# EAGLE library part BLE113 (library jetney-silabs-modules)
Bluetooth Low Energy single-mode module - Bluetooth 4.0 (CC2541). BLE113-A variant has an on-module ceramic chip antenna. BLE113-A variant includes keepout/restrict area. Antenna edge of the module should be flush up against the edge of the PCB. See datasheet for variant layout details. The BLE113 is a Bluetooth Smart module targeted for small and low-power sensors and accessories. It integrates all features required for a Bluetooth Smart application, including Bluetooth radio, software stack, and GATT-based profiles. The BLE113 Bluetooth Smart module can also host end-user applications, which means no external micro controller is required in size or price constrained devices. Moreover, it has flexible hardware interfaces to connect to different peripherals and sensors and can be powered directly from a standard 3V coin cell battery or a pair of AAA batteries. In the lowest power sleep mode it merely consumes 500 nA and will wake up within a few hundred microseconds. The BLE113 Bluetooth Smart module conusmer approximately 30% less power and is smaller than the BLE112 Bluetooth Smart Module. http://www.bluegiga.com/en-US/products/bluetooth-4.0-modules/ble113-bluetooth--smart-module https://github.com/jrowberg/sf-oshw Last updated 2014-01-04 by Jeff Rowberg <jeff@rowberg.net>
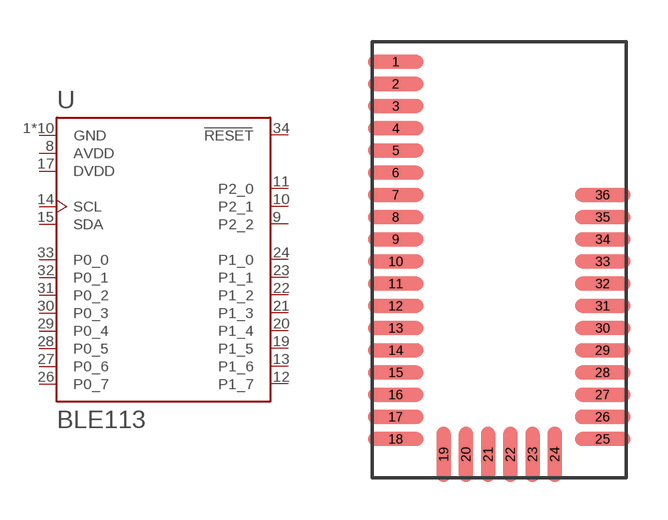
[diagram p12: symbol with the pads of BLE113-A; footprint BLE113-A]

Designator prefix U

## BLE113-A (ANTENNA: On-module ceramic chip antenna)  [BLE113-A]
1  GND  pwr
2  GND  pwr
3  GND  pwr
4  GND  pwr
5  GND  pwr
6  GND  pwr
7  GND  pwr
8  AVDD  pwr
9  P2_2
10  P2_1
11  P2_0
12  P1_7
13  P1_6
14  SCL
15  SDA
17  DVDD  pwr
18  GND  pwr
19  P1_5
20  P1_4
21  P1_3
22  P1_2
23  P1_1
24  P1_0
25  GND  pwr
26  P0_7
27  P0_6
28  P0_5
29  P0_4
30  P0_3
31  P0_2
32  P0_1
33  P0_0
34  RESET  in
36  GND  pwr

## Footprint BLE113-A (pad centres in mm)
BLE113-A/BGM113-A Bluetooth Smart Module package PCB LAYOUT NOTE: The BLE113-A/BGM113-A variant has an on-module ceramic chip antenna, and the package includes required keepout/restrict area. The antenna edge of the module should be flush up against the edge of the PCB. See datasheet for variant layout details. Source: http://www.silabs.com/products/wireless/bluetooth/bluetooth-low-energy-modules/ble113-bluetooth-smart-module Source: http://www.silabs.com/products/wireless/bluetooth/bluetooth-low-energy-modules/bgm113-bluetooth-low-energy-module EAGLE package created by Jeff Rowberg for Jetney Development at https://www.jetney.com Latest version maintained at https://github.com/jetney/jetney-eagle-libraries (jetney-silabs-modules.lbr) Last updated 2017-07-08
smd 2 x 0.5: 1 -3.725,7.138; 2 -3.725,6.338; 3 -3.725,5.537; 4 -3.725,4.737; 5 -3.725,3.938; 6 -3.725,3.138; 7 -3.725,2.337; 8 -3.725,1.538; 9 -3.725,0.738; 10 -3.725,-0.062; 11 -3.725,-0.863; 12 -3.725,-1.663; 13 -3.725,-2.462; 14 -3.725,-3.263; 15 -3.725,-4.062; 16 -3.725,-4.862; 17 -3.725,-5.662; 18 -3.725,-6.463; 25 3.725,-6.463; 26 3.725,-5.662; 27 3.725,-4.862; 28 3.725,-4.062; 29 3.725,-3.263; 30 3.725,-2.462; 31 3.725,-1.663; 32 3.725,-0.863; 33 3.725,-0.062; 34 3.725,0.738; 35 3.725,1.538; 36 3.725,2.337
smd 0.5 x 2: 19 -2,-7.013; 20 -1.2,-7.013; 21 -0.4,-7.013; 22 0.4,-7.013; 23 1.2,-7.013; 24 2,-7.013